# Altium schematic symbol library CDRH105RNP-6R8NC.SchLib: 1 symbol
Pins are listed as number, name and electrical type; pins without a type are passive.

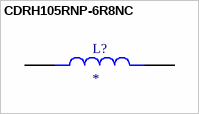
[diagram p0: symbol CDRH105RNP-6R8NC]

## CDRH105RNP-6R8NC
designator L?
6.8ÂµH Shielded Inductor 5.4A 18mOhm Max Nonstandard; MP: CDRH105RNP-6R8NC; Package: None; Price: None; Value: *; Availability: Unavailable
footprint IND_CDRH105RNP-6R8NC
pins: 1, 2